# Altium schematic symbol library IntergratedCircuits.SchLib: 40 symbols
Pins are listed as number, name and electrical type; pins without a type are passive.

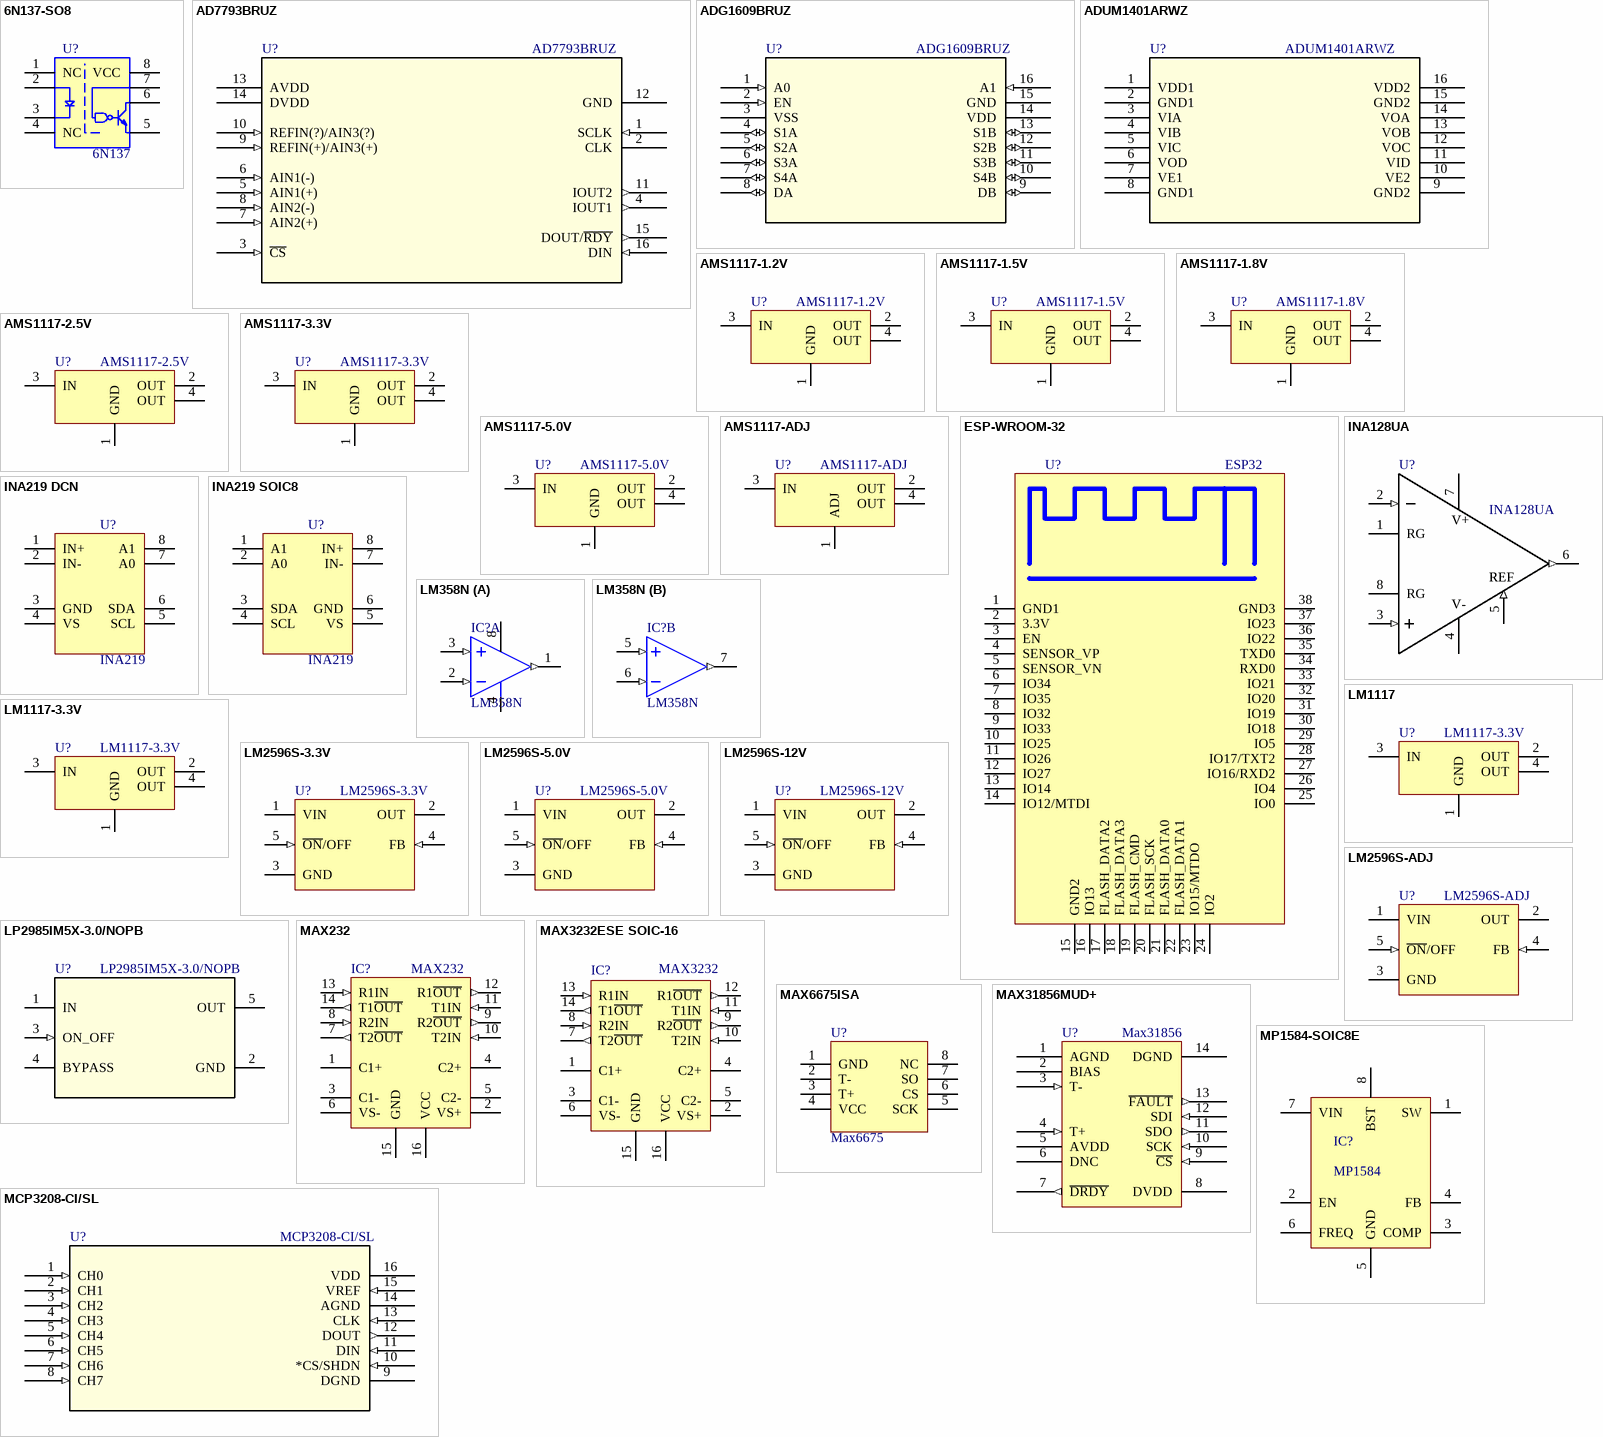
[diagram p0: symbols 6N137-SO8 to MP1584-SOIC8E]

## 6N137-SO8
designator U?, comment 6N137
Single-Channel, High Speed 10MBit/s Logic Gate Optocouplers; MF: Vishay; Digi-Key_Part_Number: 751-1262-5-ND; MP: 6N137; Digi-Key_Purchase_URL: https://www.digikey.com/product-detail/en/vishay-semiconductor-opto-division/6N137/751-1262-5-ND/1731495?WT.z_cid=ref_snapeda&utm_source=snapeda&utm_medium=aggregator&utm_campaign=buynow; Package: DIP-8 Vishay; Value: *
footprint SO-8 (8-SMD IOptoisolators - Logic Output)
pins: 1 NC, 2 A, 3 C, 4 NC, 5 Gnd, 6 Vo, 7 VE, 8 VCC

## AD7793BRUZ
designator U?
No Description Available; Mfr_Name: Analog Devices Inc; Copyright: Copyright (C) 2022 Ultra Librarian. All rights reserved.; Manufacturer_Part_Number: AD7793BRUZ; RefDes: RefDes; Type: DEV
footprint RU_16_ADI
pins: 1 SCLK (in), 2 CLK, 3 ~{CS} (in), 4 IOUT1 (out), 5 AIN1(+) (in), 6 AIN1(-) (in), 7 AIN2(+) (in), 8 AIN2(-) (in), 9 REFIN(+)/AIN3(+) (in), 10 REFIN(?)/AIN3(?) (in), 11 IOUT2 (out), 12 GND, 13 AVDD (power), 14 DVDD (power), 15 DOUT/~{RDY} (out), 16 DIN (in)

## ADG1609BRUZ
designator U?
No Description Available; Mfr_Name: Analog Devices Inc; Copyright: Copyright (C) 2022 Ultra Librarian. All rights reserved.; Manufacturer_Part_Number: ADG1609BRUZ; RefDes: RefDes; Type: DEV
footprint RU_16_ADI
pins: 1 A0 (in), 2 EN (in), 3 VSS (power), 4 S1A (io), 5 S2A (io), 6 S3A (io), 7 S4A (io), 8 DA (io), 9 DB (io), 10 S4B (io), 11 S3B (io), 12 S2B (io), 13 S1B (io), 14 VDD (power), 15 GND (power), 16 A1 (in)

## ADUM1401ARWZ
designator U?
No Description Available; Mfr_Name: Analog Devices Inc; Manufacturer_Part_Number: ADUM1401ARWZ-RL; Copyright: Copyright (C) 2022 Ultra Librarian. All rights reserved.; RefDes: RefDes; Type: DEV
footprint RW_16_ADI
pins: 1 VDD1 (power), 2 GND1, 3 VIA, 4 VIB, 5 VIC, 6 VOD, 7 VE1, 8 GND1, 9 GND2, 10 VE2, 11 VID, 12 VOC, 13 VOB, 14 VOA, 15 GND2, 16 VDD2 (power)

## AMS1117-1.2V
designator U?
1A Low-Dropout Linear Regulator
footprint SOT223-4N (SOT223, 4-Leads, Body 6.5x3.5mm, Pitch 2.3mm, Lead Span 7mm, IPC Medium Density)
pins: 1 GND, 2 OUT, 3 IN, 4 OUT

## AMS1117-1.5V
designator U?
1A Low-Dropout Linear Regulator
footprint SOT223-4N (SOT223, 4-Leads, Body 6.5x3.5mm, Pitch 2.3mm, Lead Span 7mm, IPC Medium Density)
pins: 1 GND, 2 OUT, 3 IN, 4 OUT

## AMS1117-1.8V
designator U?
1A Low-Dropout Linear Regulator
footprint SOT223-4N (SOT223, 4-Leads, Body 6.5x3.5mm, Pitch 2.3mm, Lead Span 7mm, IPC Medium Density)
pins: 1 GND, 2 OUT, 3 IN, 4 OUT

## AMS1117-2.5V
designator U?
1A Low-Dropout Linear Regulator
footprint SOT223-4N (SOT223, 4-Leads, Body 6.5x3.5mm, Pitch 2.3mm, Lead Span 7mm, IPC Medium Density)
pins: 1 GND, 2 OUT, 3 IN, 4 OUT

## AMS1117-3.3V
designator U?
1A Low-Dropout Linear Regulator
footprint SOT223-4N (SOT223, 4-Leads, Body 6.5x3.5mm, Pitch 2.3mm, Lead Span 7mm, IPC Medium Density)
pins: 1 GND, 2 OUT, 3 IN, 4 OUT

## AMS1117-5.0V
designator U?
1A Low-Dropout Linear Regulator
footprint SOT223-4N (SOT223, 4-Leads, Body 6.5x3.5mm, Pitch 2.3mm, Lead Span 7mm, IPC Medium Density)
pins: 1 GND, 2 OUT, 3 IN, 4 OUT

## AMS1117-ADJ
designator U?
1A Low-Dropout Linear Regulator
footprint SOT223-4N (SOT223, 4-Leads, Body 6.5x3.5mm, Pitch 2.3mm, Lead Span 7mm, IPC Medium Density)
pins: 1 ADJ, 2 OUT, 3 IN, 4 OUT

## ESP-WROOM-32
designator U?, comment ESP32
Not use FLASH pins
footprint ESP-WROOM-32
footprint ESP-WROOM-32_Pad 2.5
pins: 1 GND1, 2 3.3V, 3 EN, 4 SENSOR_VP, 5 SENSOR_VN, 6 IO34, 7 IO35, 8 IO32, 9 IO33, 10 IO25, 11 IO26, 12 IO27, 13 IO14, 14 IO12/MTDI, 15 GND2, 16 IO13, 17 FLASH_DATA2, 18 FLASH_DATA3, 19 FLASH_CMD, 20 FLASH_SCK, 21 FLASH_DATA0, 22 FLASH_DATA1, 23 IO15/MTDO, 24 IO2, 25 IO0, 26 IO4, 27 IO16/RXD2, 28 IO17/TXT2, 29 IO5, 30 IO18, 31 IO19, 32 IO20, 33 IO21, 34 RXD0, 35 TXD0, 36 IO22, 37 IO23, 38 GND3

## INA128UA
designator U?
No Description Available; Mfr_Name: Texas Instruments; Type: DEV; RefDes: RefDes; Copyright: Copyright (C) 2022 Ultra Librarian. All rights reserved.; Manufacturer_Part_Number: INA128UA
footprint INA128_SOIC8_N
pins: 1 RG, 2 IN- (in), 3 IN+ (in), 4 V- (power), 5 REF (in), 6 OUT (out), 7 V+ (power), 8 RG

## INA219 DCN
designator U?, comment INA219
footprint INA219-DCN
pins: 1 IN+, 2 IN-, 3 GND, 4 VS, 5 SCL, 6 SDA, 7 A0, 8 A1

## INA219 SOIC8
designator U?, comment INA219
pins: 1 A1, 2 A0, 3 SDA, 4 SCL, 5 VS, 6 GND, 7 IN-, 8 IN+

## LM358N
designator IC?
Low-Power Dual Operational Amplifier; Value: LM358N
footprint DIP8/W0.3 (8 PIN, W 300mil, Pin to pin 100mil)
footprint SOIC-8
part A pins: 1 OUT (out), 2 IN- (in), 3 IN+ (in), 4 -V, 8 +V
part B pins: 5 IN+ (in), 6 IN- (in), 7 OUT (out)

## LM1117
designator U?, comment LM1117-3.3V
800mA Low-Dropout Linear Regulator; Creator: Nguyen Ba Bien; Website: http://group3i.net
footprint SOT223-4N (SOT223, 4-Leads, Body 6.5x3.5mm, Pitch 2.3mm, Lead Span 7mm, IPC Medium Density)
pins: 1 GND, 2 OUT, 3 IN, 4 OUT

## LM1117-3.3V
designator U?
800mA Low-Dropout Linear Regulator; Creator: Nguyen Ba Bien; Website: http://group3i.net
footprint SOT223-4N (SOT223, 4-Leads, Body 6.5x3.5mm, Pitch 2.3mm, Lead Span 7mm, IPC Medium Density)
pins: 1 GND, 2 OUT, 3 IN, 4 OUT

## LM2596S-3.3V
designator U?
SIMPLE SWITCHER; 3A Step-Down Voltage Regulator; PartNumber: LM2596S-5.0; Manufacturer: National Semiconductor; PowerWise: N; FirstPublished: 4-Dec-2008; DatasheetVersion: Aug-2004; PackageVersion: revJ, Jan-1992; PackageReference: T05A; Publisher: Altium Limited; PackageDescription: TO-220, Molded, 5 Lead, Straight; CompType: Switcher; PinCount: 5; DigiKeyPartNumber: LM2576T-5.0-ND; ComponentLink3URL: http://www.national.com/packaging/folders/t05a.html
footprint TO263-5_Via40/10mil (SOT223, 4-Leads, Body 6.5x3.5mm, Pitch 2.3mm, Lead Span 7mm, IPC Medium Density)
pins: 1 VIN (power), 2 OUT (power), 3 GND (power), 4 FB (in), 5 ~{ON}/OFF (in)

## LM2596S-5.0V
designator U?
SIMPLE SWITCHER; 3A Step-Down Voltage Regulator; Manufacturer: National Semiconductor; PowerWise: N; FirstPublished: 4-Dec-2008; DatasheetVersion: Aug-2004; PackageVersion: revJ, Jan-1992; PackageReference: T05A; Publisher: Altium Limited; PackageDescription: TO-220, Molded, 5 Lead, Straight; CompType: Switcher; PartNumber: LM2596S-5.0; PinCount: 5; DigiKeyPartNumber: LM2576T-5.0-ND; ComponentLink3URL: http://www.national.com/packaging/folders/t05a.html
footprint TO263-5_Via40/10mil (SOT223, 4-Leads, Body 6.5x3.5mm, Pitch 2.3mm, Lead Span 7mm, IPC Medium Density)
pins: 1 VIN (power), 2 OUT (power), 3 GND (power), 4 FB (in), 5 ~{ON}/OFF (in)

## LM2596S-12V
designator U?
SIMPLE SWITCHER; 3A Step-Down Voltage Regulator; PartNumber: LM2596S-5.0; Manufacturer: National Semiconductor; PowerWise: N; FirstPublished: 4-Dec-2008; DatasheetVersion: Aug-2004; PackageVersion: revJ, Jan-1992; PackageReference: T05A; Publisher: Altium Limited; PackageDescription: TO-220, Molded, 5 Lead, Straight; CompType: Switcher; PinCount: 5; DigiKeyPartNumber: LM2576T-5.0-ND; ComponentLink3URL: http://www.national.com/packaging/folders/t05a.html
footprint TO263-5_Via40/10mil (SOT223, 4-Leads, Body 6.5x3.5mm, Pitch 2.3mm, Lead Span 7mm, IPC Medium Density)
pins: 1 VIN (power), 2 OUT (power), 3 GND (power), 4 FB (in), 5 ~{ON}/OFF (in)

## LM2596S-ADJ
designator U?
SIMPLE SWITCHER; 3A Step-Down Voltage Regulator; PartNumber: LM2596S-5.0; Manufacturer: National Semiconductor; PowerWise: N; FirstPublished: 4-Dec-2008; DatasheetVersion: Aug-2004; PackageVersion: revJ, Jan-1992; PackageReference: T05A; Publisher: Altium Limited; PackageDescription: TO-220, Molded, 5 Lead, Straight; CompType: Switcher; PinCount: 5; DigiKeyPartNumber: LM2576T-5.0-ND; ComponentLink3URL: http://www.national.com/packaging/folders/t05a.html
footprint TO263-5_Via40/10mil (SOT223, 4-Leads, Body 6.5x3.5mm, Pitch 2.3mm, Lead Span 7mm, IPC Medium Density)
pins: 1 VIN (power), 2 OUT (power), 3 GND (power), 4 FB (in), 5 ~{ON}/OFF (in)

## LP2985IM5X-3.0/NOPB
designator U?
No Description Available; Mfr_Name: Texas Instruments; PartNumber: LP2985AI-2P9DBV; CompType: IC; Type: DEV; RefDes: RefDes; Copyright: Copyright (C) 2022 Ultra Librarian. All rights reserved.; Manufacturer_Part_Number: LP2985IM5X-3.0/NOPB; Application_BuildNumber: *; PackageReference: DBV0005A; MountType: SMT; Manufacturer: Texas Instruments
footprint DBV0005A_N
pins: 1 IN (power), 2 GND (power), 3 ON_OFF (in), 4 BYPASS, 5 OUT (power)

## MAX232
designator IC?
Dual EIA-232 Driver/Receiver; Value: MAX232
footprint SOIC-16
pins: 1 C1+, 2 VS+ (power), 3 C1-, 4 C2+, 5 C2-, 6 VS- (power), 7 T2~{OUT} (out), 8 R2IN (in), 9 R2~{OUT} (out), 10 T2IN (in), 11 T1IN (in), 12 R1~{OUT} (out), 13 R1IN (in), 14 T1~{OUT} (out), 15 GND (power), 16 VCC (power)

## MAX3232ESE SOIC-16
designator IC?, comment MAX3232
Dual EIA-232 Driver/Receiver,3V~5.5V; Value: MAX232
footprint SOIC-16N (SOIC, 16-Leads, Body 9.9x3.9mm, Pitch 1.27mm, IPC High Density)
pins: 1 C1+, 2 VS+ (power), 3 C1-, 4 C2+, 5 C2-, 6 VS- (power), 7 T2~{OUT} (out), 8 R2IN (in), 9 R2~{OUT} (out), 10 T2IN (in), 11 T1IN (in), 12 R1~{OUT} (out), 13 R1IN (in), 14 T1~{OUT} (out), 15 GND (power), 16 VCC (power)

## MAX6675ISA
designator U?, comment Max6675
footprint SOIC-8
pins: 1 GND, 2 T-, 3 T+, 4 VCC, 5 SCK, 6 CS, 7 SO, 8 NC

## MAX31856MUD+
designator U?, comment Max31856
Integrated Circuit - Thermocouple to Digital Converter; Manufacturer_Name: Maxim Integrated; Manufacturer_Part_Number: MAX31856MUD+; Datasheet Link: https://componentsearchengine.com/Datasheets/2/MAX31856MUD+.pdf; Height: 1.1mm; Mouser Part Number: 700-MAX31856MUD+; Mouser Price/Stock: https://www.mouser.com/Search/Refine.aspx?Keyword=700-MAX31856MUD%2B
footprint SOP65P640X110-14N
footprint TSSOP 14
pins: 1 AGND (power), 2 BIAS, 3 T- (in), 4 T+ (in), 5 AVDD (power), 6 DNC, 7 ~{DRDY} (out), 8 DVDD (power), 9 ~{CS} (in), 10 SCK (in), 11 SDO (out), 12 SDI (in), 13 ~{FAULT} (out), 14 DGND (power)

## MCP3208-CI/SL
designator U?
No Description Available; Mfr_Name: Microchip; Copyright: Copyright (C) 2022 Ultra Librarian. All rights reserved.; Manufacturer_Part_Number: MCP3208-CI/SL; RefDes: RefDes; Type: DEV
footprint SOIC16-N_MC_MCH
pins: 1 CH0 (in), 2 CH1 (in), 3 CH2 (in), 4 CH3 (in), 5 CH4 (in), 6 CH5 (in), 7 CH6 (in), 8 CH7 (in), 9 DGND, 10 *CS/SHDN (in), 11 DIN (in), 12 DOUT (out), 13 CLK (in), 14 AGND, 15 VREF (in), 16 VDD

## MP1584-SOIC8E
designator IC?, comment MP1584
Step-Down Converter 3A, 1.5MHz, 28V; ComponentLink1Description: New link; ComponentLink1URL: https://www.monolithicpower.com/en/documentview/productdocument/index/version/2/document_type/Datasheet/lang/en/sku/MP1584/document_id/204/
footprint SOIC8E
pins: 1 SW, 2 EN, 3 COMP, 4 FB, 5 GND, 6 FREQ, 7 VIN, 8 BST

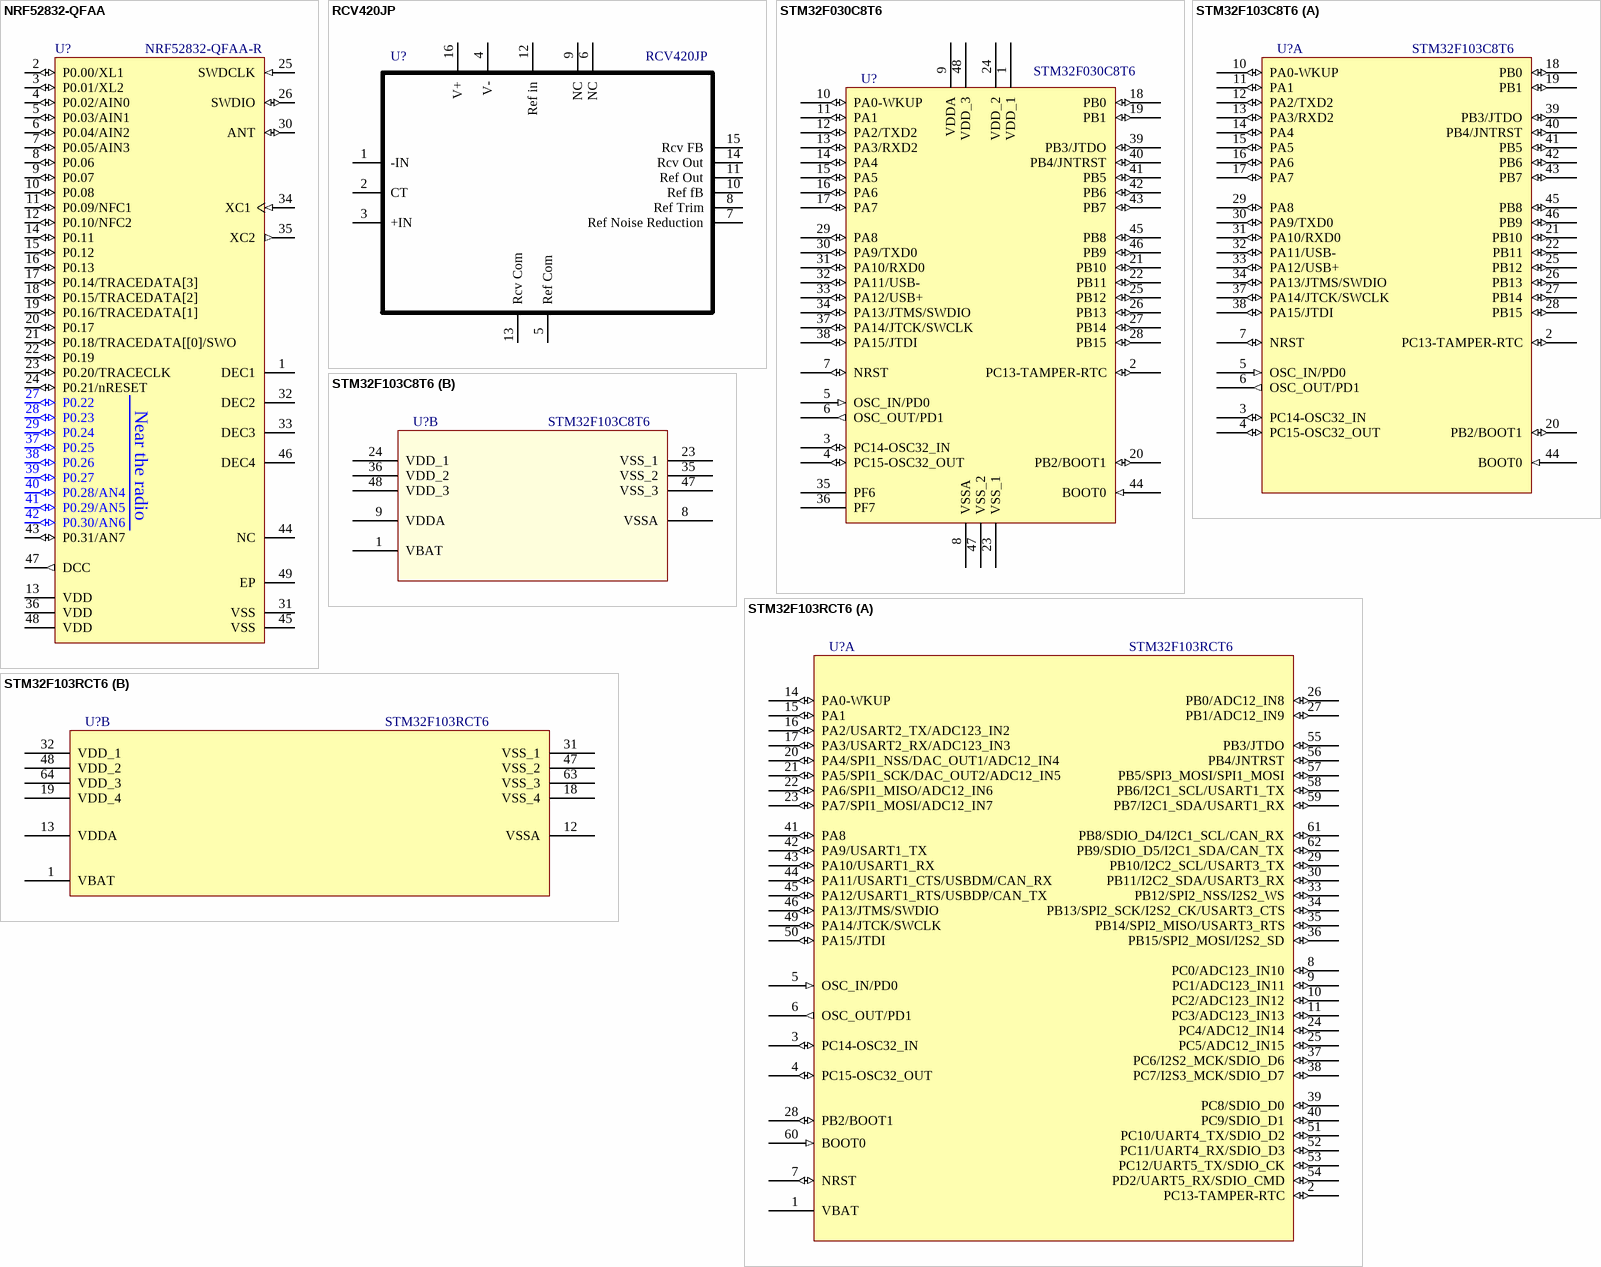
[diagram p1: symbols NRF52832-QFAA to STM32F103RCT6]

## NRF52832-QFAA
designator U?, comment NRF52832-QFAA-R
Multiprotocol Bluetooth Smart, ANT/ANT+ and Proprietary System-on-Chip, 2.4 GHz, 256 KB FLASH, 1.7 to 3.6 V, -40 to 85 degC, 48-Pin QFN, RoHS, Tape and Reel; Manufacturer: Nordic Semiconductor; Frequency: 2.4GHz; Datasheet Version: Rev. 1.0, 02/2016; Datasheet URL: http://infocenter.nordicsemi.com/pdf/nRF52832_PS_v1.0.pdf; Mount: SurfaceMount; Max Operating Temperature: 85degC; Manufacturer URL: http://www.nordicsemi.com/eng/Products/; Lead Free: LeadFree; Min Operating Temperature: -40degC; RoHSCompliant: true; Package Reference: QF-48; Package Description: 48-Pin Quad Flat No-lead Package, Body 6 x 6 mm, Pitch 0.4 mm, Thermal Pad 4.6 x 4.6 mm; Max Frequency: 2.4GHz; Packaging: TapeandReel
footprint QFN 48-L (QFN, 48-Leads, Body 6.00x6.00mm, Pitch 0.40mm, Thermal Pad 4.60x4.60mm, IPC High Density)
footprint QFN 48-M (QFN, 48-Leads, Body 6.00x6.00mm, Pitch 0.40mm, Thermal Pad 4.60x4.60mm, IPC Low Density)
footprint QFN 48-N (QFN, 48-Leads, Body 6.00x6.00mm, Pitch 0.40mm, Thermal Pad 4.60x4.60mm, IPC Medium Density)
pins: 1 DEC1 "Power supply decoupling.", 2 P0.00/XL1 (io), 3 P0.01/XL2 (io), 4 P0.02/AIN0 (io), 5 P0.03/AIN1 (io), 6 P0.04/AIN2 (io), 7 P0.05/AIN3 (io), 8 P0.06 (io) "General purpose I/O pin.", 9 P0.07 (io) "General purpose I/O pin.", 10 P0.08 (io) "General purpose I/O pin.", 11 P0.09/NFC1 (io), 12 P0.10/NFC2 (io), 13 VDD (power) "Power-supply pin.", 14 P0.11 (io) "General purpose I/O pin.", 15 P0.12 (io) "General purpose I/O pin.", 16 P0.13 (io) "General purpose I/O pin.", 17 P0.14/TRACEDATA[3] (io), 18 P0.15/TRACEDATA[2] (io), 19 P0.16/TRACEDATA[1] (io), 20 P0.17 (io) "General purpose I/O pin", 21 P0.18/TRACEDATA[[0]/SWO (io), 22 P0.19 (io) "General purpose I/O pin", 23 P0.20/TRACECLK (io), 24 P0.21/nRESET (io), 25 SWDCLK (in) "Serial Wire Debug clock input for debug and programming.", 26 SWDIO (io) "Serial Wire Debug I/O for debug and programming.", 27 P0.22 (io) "General purpose I/O pin", 28 P0.23 (io) "General purpose I/O pin", 29 P0.24 (io) "General purpose I/O pin", 30 ANT (io) "Single-ended radio antenna connection.", 31 VSS (power) "Ground pin (Radio supply).", 32 DEC2 "1V3 regulator supply decoupling", 33 DEC3 "Power supply decoupling.", 34 XC1 (in) "Connection for 32 MHz crystal.", 35 XC2 (out) "Connection for 32 MHz crystal.", 36 VDD (power) "Power-supply pin.", 37 P0.25 (io) "General purpose I/O pin", 38 P0.26 (io) "General purpose I/O pin", 39 P0.27 (io) "General purpose I/O pin", 40 P0.28/AN4 (io), 41 P0.29/AN5 (io), 42 P0.30/AN6 (io), 43 P0.31/AN7 (io), 44 NC "No connect pin. Leave unconnected.", 45 VSS (power) "Ground Pin.", 46 DEC4 "1V3 regulator supply decoupling.", 47 DCC (out) "DC/DC regulator output pin", 48 VDD (power) "Power-supply pin.", 49 EP (power) "Ground pad."
text: Near the radio

## RCV420JP
designator U?
Precision 4mA to 20mA / CURRENT LOOP RECEIVER
footprint DIP16/W0.3 (DIP; 16 Leads; Row Spacing 7.62 mm; Pitch 2.54 mm)
footprint DIP16/W0.3-Holder (16 PIN, W 300mil, Pin to pin 100mil)
pins: 1 -IN, 2 CT, 3 +IN, 4 V-, 5 Ref Com, 6 NC, 7 Ref Noise Reduction, 8 Ref Trim, 9 NC, 10 Ref fB, 11 Ref Out, 12 Ref in, 13 Rcv Com, 14 Rcv Out, 15 Rcv FB, 16 V+

## STM32F030C8T6
designator U?
footprint LQFP48
pins: 1 VDD_1 (power), 2 PC13-TAMPER-RTC (io), 3 PC14-OSC32_IN (io), 4 PC15-OSC32_OUT (io), 5 OSC_IN/PD0 (in), 6 OSC_OUT/PD1 (out), 7 NRST (io), 8 VSSA (power), 9 VDDA (power), 10 PA0-WKUP (io), 11 PA1 (io), 12 PA2/TXD2 (io), 13 PA3/RXD2 (io), 14 PA4 (io), 15 PA5 (io), 16 PA6 (io), 17 PA7 (io), 18 PB0 (io), 19 PB1 (io), 20 PB2/BOOT1 (io), 21 PB10 (io), 22 PB11 (io), 23 VSS_1 (power), 24 VDD_2 (power), 25 PB12 (io), 26 PB13 (io), 27 PB14 (io), 28 PB15 (io), 29 PA8 (io), 30 PA9/TXD0 (io), 31 PA10/RXD0 (io), 32 PA11/USB- (io), 33 PA12/USB+ (io), 34 PA13/JTMS/SWDIO (io), 35 PF6 (power), 36 PF7 (power), 37 PA14/JTCK/SWCLK (io), 38 PA15/JTDI (io), 39 PB3/JTDO (io), 40 PB4/JNTRST (io), 41 PB5 (io), 42 PB6 (io), 43 PB7 (io), 44 BOOT0 (in), 45 PB8 (io), 46 PB9 (io), 47 VSS_2 (power), 48 VDD_3 (power)

## STM32F103C8T6
designator U?
STM32 ARM-based 32-bit MCU with ARM 32-bit Cortex-M3 Microcontroller, 128 Kbytes Flash, 48-pin LQFP, Industrial Temperature; Published: 30-May-2008; DatasheetVersion: rev6, Mar-2008; PackageVersion: Mar-2008; PackageReference: LQFP48; Publisher: Altium Limited; PackageDescription: 48-Pin Low-Profile Quad Flat Pack, 7 x 7 mm Body, 0.5 mm Pitch (LQFP48); ComponentLink1Description: Manufacturer Link; ComponentLink1URL: www.st.com/stm32; ComponentLink2Description: Datasheet; ComponentLink2URL: http://www.st.com/stonline/products/literature/ds/13586.pdf
footprint LQFP48
part A pins: 2 PC13-TAMPER-RTC (io), 3 PC14-OSC32_IN (io), 4 PC15-OSC32_OUT (io), 5 OSC_IN/PD0 (in), 6 OSC_OUT/PD1 (out), 7 NRST (io), 10 PA0-WKUP (io), 11 PA1 (io), 12 PA2/TXD2 (io), 13 PA3/RXD2 (io), 14 PA4 (io), 15 PA5 (io), 16 PA6 (io), 17 PA7 (io), 18 PB0 (io), 19 PB1 (io), 20 PB2/BOOT1 (io), 21 PB10 (io), 22 PB11 (io), 25 PB12 (io), 26 PB13 (io), 27 PB14 (io), 28 PB15 (io), 29 PA8 (io), 30 PA9/TXD0 (io), 31 PA10/RXD0 (io), 32 PA11/USB- (io), 33 PA12/USB+ (io), 34 PA13/JTMS/SWDIO (io), 37 PA14/JTCK/SWCLK (io), 38 PA15/JTDI (io), 39 PB3/JTDO (io), 40 PB4/JNTRST (io), 41 PB5 (io), 42 PB6 (io), 43 PB7 (io), 44 BOOT0 (in), 45 PB8 (io), 46 PB9 (io)
part B pins: 1 VBAT (power), 8 VSSA (power), 9 VDDA (power), 23 VSS_1 (power), 24 VDD_1 (power), 35 VSS_2 (power), 36 VDD_2 (power), 47 VSS_3 (power), 48 VDD_3 (power)

## STM32F103RCT6
designator U?
Integrated Circuit; Manufacturer_Name: STMicroelectronics; Allied_Number: 70391008; Datasheet Link: http://www.st.com/st-web-ui/static/active/en/resource/technical/document/datasheet/CD00191185.pdf; Height: 1.6mm; Manufacturer_Part_Number: STM32F103RCT6; Mouser Part Number: 511-STM32F103RCT6; Mouser Price/Stock: https://www.mouser.com/Search/Refine.aspx?Keyword=511-STM32F103RCT6; RS Part Number: 1459607; RS Price/Stock: http://uk.rs-online.com/web/p/products/1459607; Allied Price/Stock: http://www.alliedelec.com/stmicroelectronics-stm32f103rct6/70391008/
part A pins: 1 VBAT (power), 2 PC13-TAMPER-RTC (io), 3 PC14-OSC32_IN (io), 4 PC15-OSC32_OUT (io), 5 OSC_IN/PD0 (in), 6 OSC_OUT/PD1 (out), 7 NRST (io), 8 PC0/ADC123_IN10 (io), 9 PC1/ADC123_IN11 (io), 10 PC2/ADC123_IN12 (io), 11 PC3/ADC123_IN13 (io), 14 PA0-WKUP (io), 15 PA1 (io), 16 PA2/USART2_TX/ADC123_IN2 (io), 17 PA3/USART2_RX/ADC123_IN3 (io), 20 PA4/SPI1_NSS/DAC_OUT1/ADC12_IN4 (io), 21 PA5/SPI1_SCK/DAC_OUT2/ADC12_IN5 (io), 22 PA6/SPI1_MISO/ADC12_IN6 (io), 23 PA7/SPI1_MOSI/ADC12_IN7 (io), 24 PC4/ADC12_IN14 (io), 25 PC5/ADC12_IN15 (io), 26 PB0/ADC12_IN8 (io), 27 PB1/ADC12_IN9 (io), 28 PB2/BOOT1 (io), 29 PB10/I2C2_SCL/USART3_TX (io), 30 PB11/I2C2_SDA/USART3_RX (io), 33 PB12/SPI2_NSS/I2S2_WS (io), 34 PB13/SPI2_SCK/I2S2_CK/USART3_CTS (io), 35 PB14/SPI2_MISO/USART3_RTS (io), 36 PB15/SPI2_MOSI/I2S2_SD (io), 37 PC6/I2S2_MCK/SDIO_D6 (io), 38 PC7/I2S3_MCK/SDIO_D7 (io), 39 PC8/SDIO_D0 (io), 40 PC9/SDIO_D1 (io), 41 PA8 (io), 42 PA9/USART1_TX (io), 43 PA10/USART1_RX (io), 44 PA11/USART1_CTS/USBDM/CAN_RX (io), 45 PA12/USART1_RTS/USBDP/CAN_TX (io), 46 PA13/JTMS/SWDIO (io), 49 PA14/JTCK/SWCLK (io), 50 PA15/JTDI (io), 51 PC10/UART4_TX/SDIO_D2 (io), 52 PC11/UART4_RX/SDIO_D3 (io), 53 PC12/UART5_TX/SDIO_CK (io), 54 PD2/UART5_RX/SDIO_CMD (io), 55 PB3/JTDO (io), 56 PB4/JNTRST (io), 57 PB5/SPI3_MOSI/SPI1_MOSI (io), 58 PB6/I2C1_SCL/USART1_TX (io), 59 PB7/I2C1_SDA/USART1_RX (io), 60 BOOT0 (in), 61 PB8/SDIO_D4/I2C1_SCL/CAN_RX (io), 62 PB9/SDIO_D5/I2C1_SDA/CAN_TX (io)
part B pins: 1 VBAT (power), 12 VSSA (power), 13 VDDA (power), 18 VSS_4 (power), 19 VDD_4 (power), 31 VSS_1 (power), 32 VDD_1 (power), 47 VSS_2 (power), 48 VDD_2 (power), 63 VSS_3 (power), 64 VDD_3 (power)

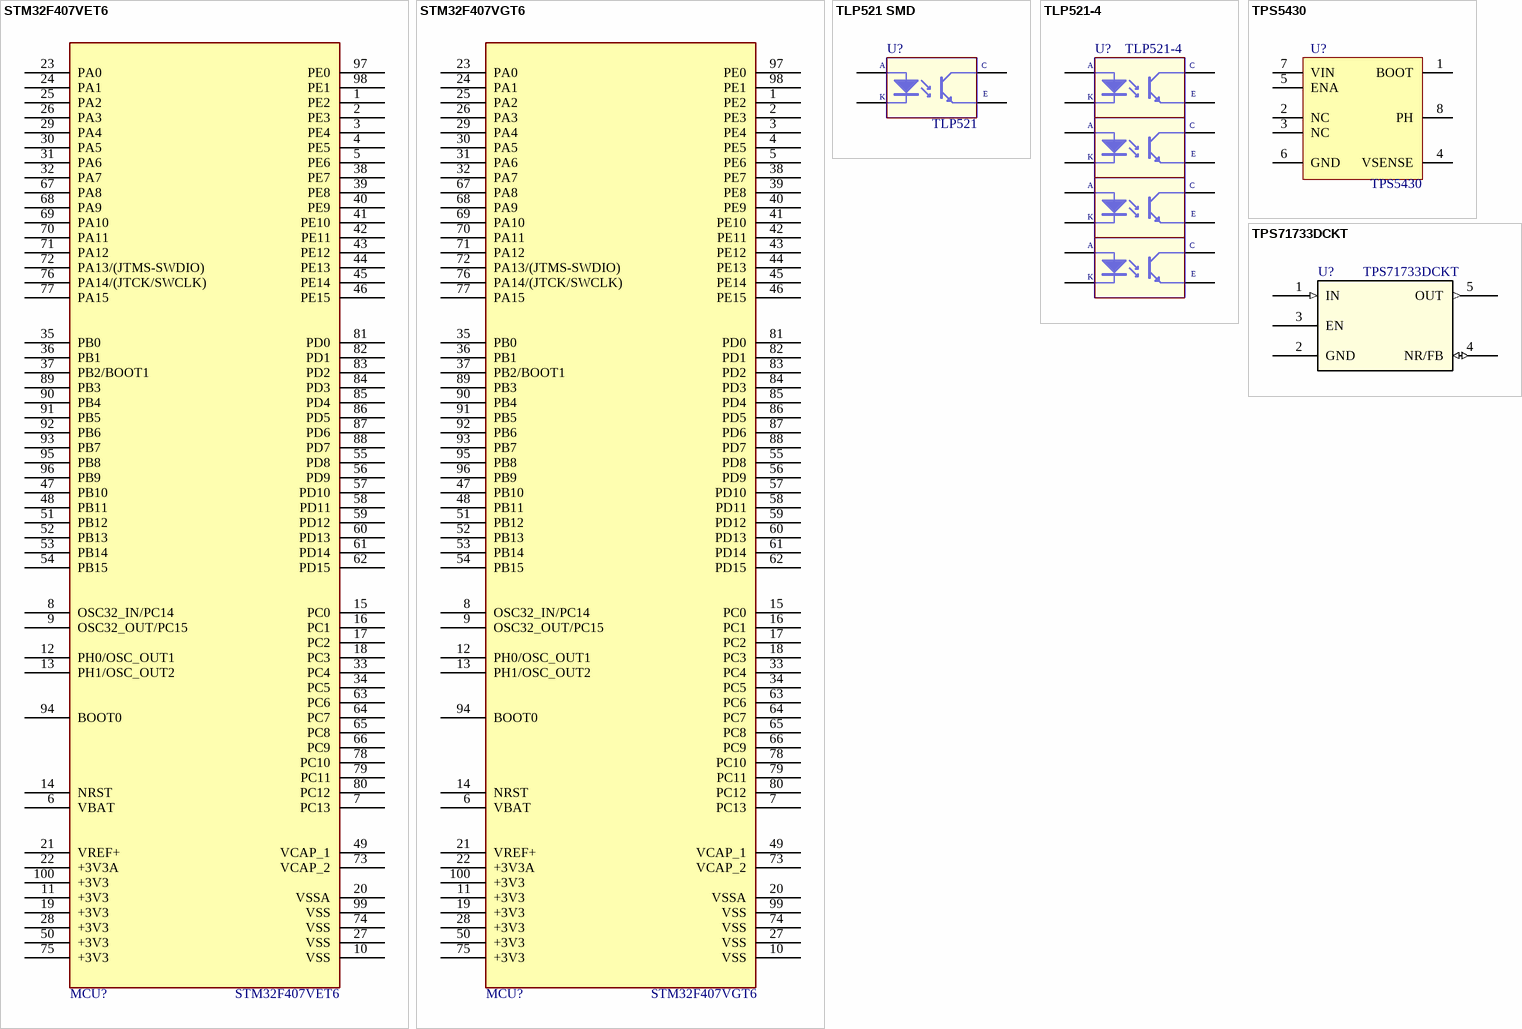
[diagram p2: symbols STM32F407VET6 to TPS71733DCKT]

## STM32F407VET6
designator MCU?
ARM Cortex-M4
footprint LQFP100_M (Thin QFP, 100-Leads, Body 14x14mm, Pitch 0.5mm, IPC Low Density)
pins: 1 PE2, 2 PE3, 3 PE4, 4 PE5, 5 PE6, 6 VBAT, 7 PC13, 8 OSC32_IN/PC14, 9 OSC32_OUT/PC15, 10 VSS, 11 +3V3, 12 PH0/OSC_OUT1, 13 PH1/OSC_OUT2, 14 NRST, 15 PC0, 16 PC1, 17 PC2, 18 PC3, 19 +3V3, 20 VSSA, 21 VREF+, 22 +3V3A, 23 PA0, 24 PA1, 25 PA2, 26 PA3, 27 VSS, 28 +3V3, 29 PA4, 30 PA5, 31 PA6, 32 PA7, 33 PC4, 34 PC5, 35 PB0, 36 PB1, 37 PB2/BOOT1, 38 PE7, 39 PE8, 40 PE9, 41 PE10, 42 PE11, 43 PE12, 44 PE13, 45 PE14, 46 PE15, 47 PB10, 48 PB11, 49 VCAP_1, 50 +3V3, 51 PB12, 52 PB13, 53 PB14, 54 PB15, 55 PD8, 56 PD9, 57 PD10, 58 PD11, 59 PD12, 60 PD13, 61 PD14, 62 PD15, 63 PC6, 64 PC7, 65 PC8, 66 PC9, 67 PA8, 68 PA9, 69 PA10, 70 PA11, 71 PA12, 72 PA13/(JTMS-SWDIO), 73 VCAP_2, 74 VSS, 75 +3V3, 76 PA14/(JTCK/SWCLK), 77 PA15, 78 PC10, 79 PC11, 80 PC12, 81 PD0, 82 PD1, 83 PD2, 84 PD3, 85 PD4, 86 PD5, 87 PD6, 88 PD7, 89 PB3, 90 PB4, 91 PB5, 92 PB6, 93 PB7, 94 BOOT0, 95 PB8, 96 PB9, 97 PE0, 98 PE1, 99 VSS, 100 +3V3

## STM32F407VGT6
designator MCU?
ARM Cortex-M4
footprint LQFP100_M (Thin QFP, 100-Leads, Body 14x14mm, Pitch 0.5mm, IPC Low Density)
pins: 1 PE2, 2 PE3, 3 PE4, 4 PE5, 5 PE6, 6 VBAT, 7 PC13, 8 OSC32_IN/PC14, 9 OSC32_OUT/PC15, 10 VSS, 11 +3V3, 12 PH0/OSC_OUT1, 13 PH1/OSC_OUT2, 14 NRST, 15 PC0, 16 PC1, 17 PC2, 18 PC3, 19 +3V3, 20 VSSA, 21 VREF+, 22 +3V3A, 23 PA0, 24 PA1, 25 PA2, 26 PA3, 27 VSS, 28 +3V3, 29 PA4, 30 PA5, 31 PA6, 32 PA7, 33 PC4, 34 PC5, 35 PB0, 36 PB1, 37 PB2/BOOT1, 38 PE7, 39 PE8, 40 PE9, 41 PE10, 42 PE11, 43 PE12, 44 PE13, 45 PE14, 46 PE15, 47 PB10, 48 PB11, 49 VCAP_1, 50 +3V3, 51 PB12, 52 PB13, 53 PB14, 54 PB15, 55 PD8, 56 PD9, 57 PD10, 58 PD11, 59 PD12, 60 PD13, 61 PD14, 62 PD15, 63 PC6, 64 PC7, 65 PC8, 66 PC9, 67 PA8, 68 PA9, 69 PA10, 70 PA11, 71 PA12, 72 PA13/(JTMS-SWDIO), 73 VCAP_2, 74 VSS, 75 +3V3, 76 PA14/(JTCK/SWCLK), 77 PA15, 78 PC10, 79 PC11, 80 PC12, 81 PD0, 82 PD1, 83 PD2, 84 PD3, 85 PD4, 86 PD5, 87 PD6, 88 PD7, 89 PB3, 90 PB4, 91 PB5, 92 PB6, 93 PB7, 94 BOOT0, 95 PB8, 96 PB9, 97 PE0, 98 PE1, 99 VSS, 100 +3V3

## TLP521 SMD
designator U?, comment TLP521
4-Pin Phototransistor Optocoupler. Isolation Voltage: 2.5kV. Output Voltage: 55V; Published: 24-Mar-1999; LatestRevisionDate: 04-Mar-2005; LatestRevisionNote: Sch pins 3 & 4 Swapped.; DatasheetDocument: Nov-2003; PackageReference: DIP-4; Publisher: Altium Limited
footprint SMD-4
pins: 1 A "Anode", 2 K "Cathode", 3 E "Emitter", 4 C "Collector"

## TLP521-4
designator U?
4-Pin Phototransistor Optocoupler. Isolation Voltage: 2.5kV. Output Voltage: 55V; Published: 24-Mar-1999; LatestRevisionDate: 04-Mar-2005; LatestRevisionNote: Sch pins 3 & 4 Swapped.; DatasheetDocument: Nov-2003; PackageReference: DIP-4; Publisher: Altium Limited
footprint DIP16_19P84X6P5_ISO
pins: 1 A "Anode", 2 K "Cathode", 3 A "Anode", 4 K "Cathode", 5 A "Anode", 6 K "Cathode", 7 A "Anode", 8 K "Cathode", 9 E "Emitter", 10 C "Collector", 11 E "Emitter", 12 C "Collector", 13 E "Emitter", 14 C "Collector", 15 E "Emitter", 16 C "Collector"

## TPS5430
designator U?
Wide Input Range, Step-Down Converter
footprint SOIC-8 - GNDPAD
pins: 1 BOOT, 2 NC, 3 NC, 4 VSENSE, 5 ENA, 6 GND, 7 VIN, 8 PH

## TPS71733DCKT
designator U?
Low Noise, High-Bandwidth PSRR, Low-Dropout 150mA Linear Regulator; GENERIC_PART_NUMBER: TPS71701; Vendor: Texas Instruments; PACKAGE_DESIGNATOR: DCK; PIN_COUNT: 5; FAMILY_NAME: SINGLE CHANNEL LDO; INDUSTRY_STD_PKG_TYPE: SC70; Manufacturer_Part_Number: TPS71733DCKT; Datasheet_URL: http://www.ti.com/lit/gpn/TPS71701; Manufacturer: Texas Instruments; Copyright: Copyright (C) 2021 Accelerated Designs. All rights reserved; RefDes: RefDes; Type: DEV
footprint DCK5
pins: 1 IN (in), 2 GND (power), 3 EN, 4 NR/FB (io), 5 OUT (out)